# Altium schematic symbol library 4pinheader.SchLib: 1 symbol
Pins are listed as number, name and electrical type; pins without a type are passive.

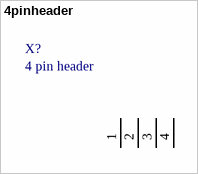
[diagram p0: symbol 4pinheader]

## 4pinheader
designator X?, comment 4 pin header
pins: 1, 2, 3, 4